# EAGLE library part WTV020-SD-16P (library 00_custom)
Sound module with micro SD card slot
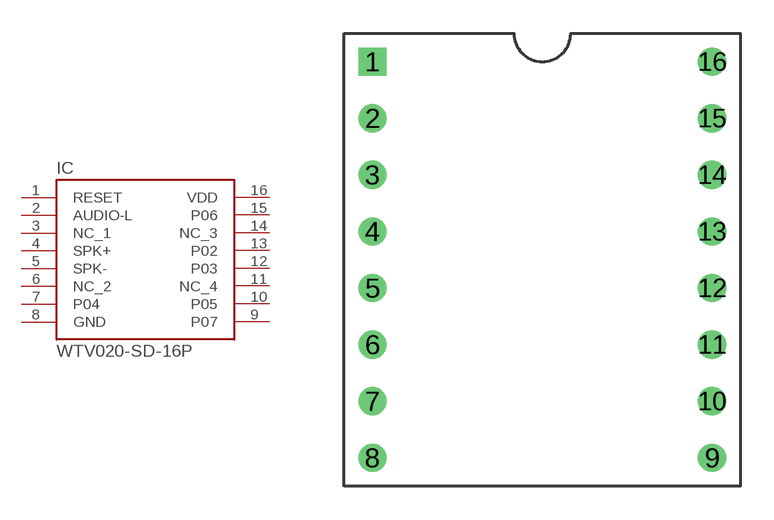
[diagram p2: symbol with the pads of WTV020-SD-16P; footprint WTV020-SD-16P]

Designator prefix IC

## WTV020-SD-16P  [WTV020-SD-16P]
1  RESET
2  AUDIO-L
3  NC_1
4  SPK+
5  SPK-
6  NC_2
7  P04
8  GND
9  P07
10  P05
11  NC_4
12  P03
13  P02
14  NC_3
15  P06
16  VDD

## Footprint WTV020-SD-16P (pad centres in mm)
drill 0.762 square: 1 -7.62,8.89
drill 0.762: 2 -7.62,6.35; 3 -7.62,3.81; 4 -7.62,1.27; 5 -7.62,-1.27; 6 -7.62,-3.81; 7 -7.62,-6.35; 8 -7.62,-8.89; 9 7.62,-8.89; 10 7.62,-6.35; 11 7.62,-3.81; 12 7.62,-1.27; 13 7.62,1.27; 14 7.62,3.81; 15 7.62,6.35; 16 7.62,8.89